# Altium footprint library TOP-3.PcbLib: 1 footprints
Each footprint in its own frame and in the unit in brackets; x right, y up, seen from the top. Pads: shape width x height; smd on the part's side, far side on the other; paste and mask are expansions set on the pad; w line width, h text height; cw(c..) or ccw(c..) is an arc to the next point about the centre after c.
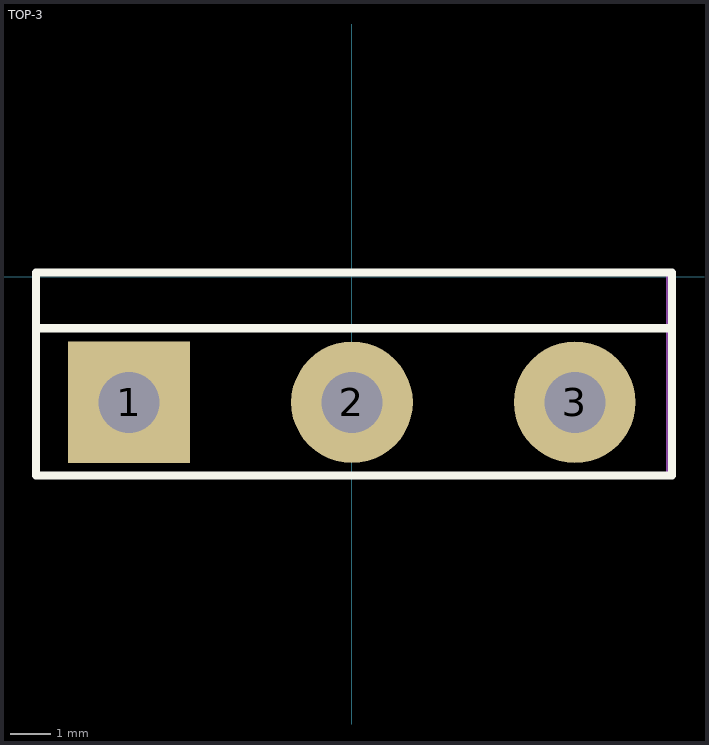
[diagram p0: the footprint, top view; thin cyan lines are the x and y axes]

## TOP-3 [mm]
height 1.1
pads (3):
  rect 3x3 hole 1.5: 1(-5.5,-3.1)
  round 3 hole 1.5: 2(0,-3.1) 3(5.5,-3.1)
Top Overlay:
  lines w0.2: -7.8,-1.27 7.9,-1.27 ; -7.8,-4.9 7.9,-4.9 7.9,0.1 -7.8,0.1 -7.8,-4.9
Top Assembly:
  lines w0.1: -7.8,-4.9 7.8,-4.9 7.8,0.1 3.45,0.1 -7.8,0.1 -7.8,-4.9
  text "'.Designator'" at 0,0 h0.7
3D body "User Library-TOP3.STEP": height 25.9, standoff -10, extent -7.75,-4.5 7.75,0